# EAGLE library part IC_BUFF_SN74LVC1T45DBV (library dp_devices)
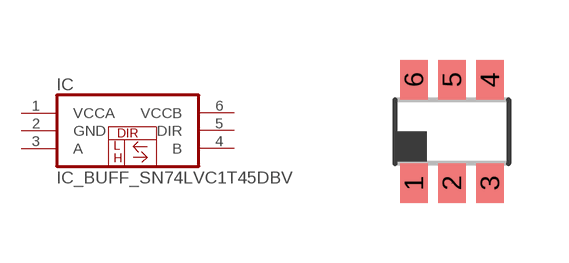
[diagram p25: symbol with the pads of DBV-R-PDSO-G6; footprint DBV-R-PDSO-G6]

Designator prefix IC

## IC_BUFF_SN74LVC1T45DBV  [DBV-R-PDSO-G6]
1  VCCA  pwr
2  GND  pwr
3  A
4  B
5  DIR  in
6  VCCB  pwr

## Footprint DBV-R-PDSO-G6 (pad centres in mm)
smd 0.69 x 0.99: 1 -0.95,-1.29; 2 0,-1.29; 3 0.95,-1.29; 4 0.95,1.3; 5 0,1.3; 6 -0.95,1.3